# Altium schematic symbol library SM712.TCT.SchLib: 1 symbol
Pins are listed as number, name and electrical type; pins without a type are passive.

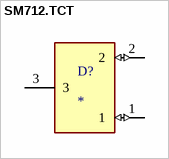
[diagram p0: symbol SM712.TCT]

## SM712.TCT
designator D?
SM Series 12 V 400 W Asymmetrical TVS Diode for Extended Common-Mode - SOT-23; MP: SM712.TCT; MF: Semtech Corporation; SnapEDA_Link: https://www.snapeda.com/parts/SM712.TCT/Semtech+Corporation/view-part/?ref=snap; Value: *; Check_prices: https://www.snapeda.com/parts/SM712.TCT/Semtech+Corporation/view-part/?ref=eda; Price: None; Purchase-URL: https://pricing.snapeda.com/search/part/SM712.TCT/?ref=eda; Package: SOT-23 Semtech; Availability: In Stock
footprint SOT23
pins: 1 (io), 2 (io), 3 (power)